# EAGLE library part FE1.1S (library jfd-ic)
USB 2.0 HIGH SPEED 4-PORT HUB CONTROLLER
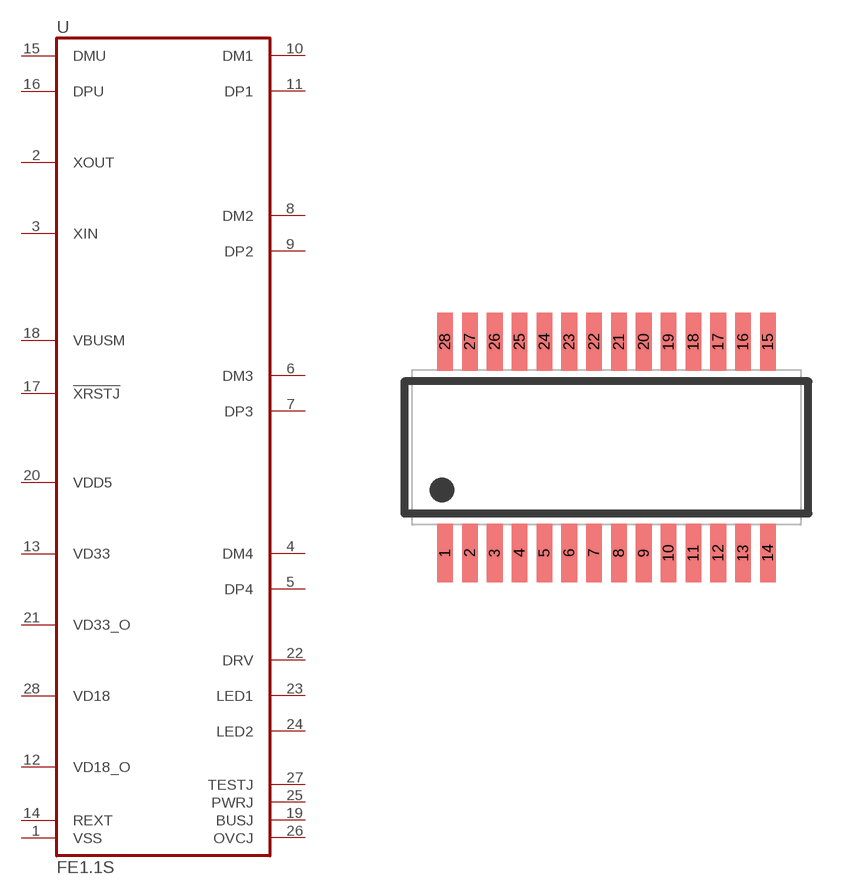
[diagram p0: symbol with the pads of SSOP28; footprint SSOP28]

Designator prefix U

## FE1.1S  [SSOP28]
1  VSS  pwr
2  XOUT  out
3  XIN  in
4  DM4
5  DP4
6  DM3
7  DP3
8  DM2
9  DP2
10  DM1
11  DP1
12  VD18_O  out
13  VD33  in
14  REXT  in
15  DMU
16  DPU
17  !XRSTJ!  in
18  VBUSM  in
19  BUSJ
20  VDD5
21  VD33_O  out
22  DRV
23  LED1
24  LED2
25  PWRJ  in
26  OVCJ  in
27  TESTJ
28  VD18  in

## Footprint SSOP28 (pad centres in mm)
Shrink Small Outline Package pitch 0.64 mm, body 10 x 4 mm
smd 0.4 x 1.5: 1 -4.16,-2.72; 2 -3.52,-2.72; 3 -2.88,-2.72; 4 -2.24,-2.72; 5 -1.6,-2.72; 6 -0.96,-2.72; 7 -0.32,-2.72; 8 0.32,-2.72; 9 0.96,-2.72; 10 1.6,-2.72; 11 2.24,-2.72; 12 2.88,-2.72; 13 3.52,-2.72; 14 4.16,-2.72; 15 4.16,2.72; 16 3.52,2.72; 17 2.88,2.72; 18 2.24,2.72; 19 1.6,2.72; 20 0.96,2.72; 21 0.32,2.72; 22 -0.32,2.72; 23 -0.96,2.72; 24 -1.6,2.72; 25 -2.24,2.72; 26 -2.88,2.72; 27 -3.52,2.72; 28 -4.16,2.72